# EAGLE library part IC_MEM_25XX** (library dp_devices)
SPI EEPROM
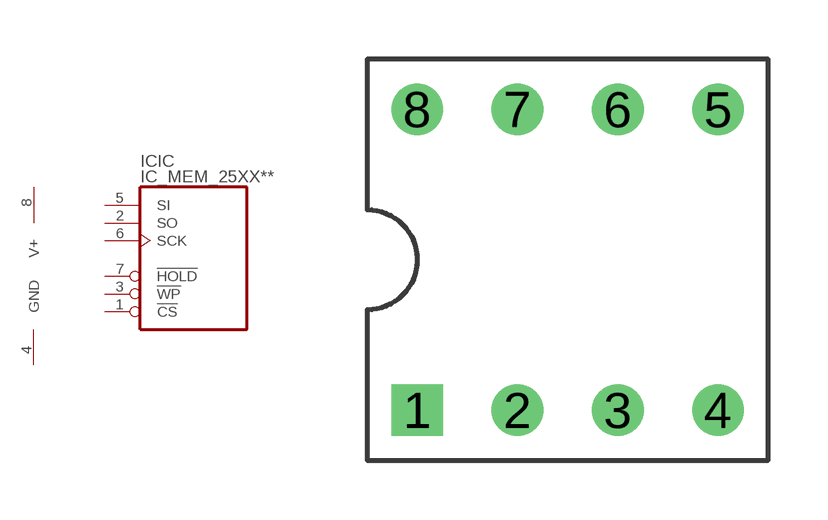
[diagram p132: symbol with the pads of DIP8; footprint DIP8]

Designator prefix IC; gates SUP=SUPPLY IC=25AA

## IC_MEM_25XX-DIP8  [DIP8]
1  IC:!CS  in
2  IC:SO  out
3  IC:!WP  in
4  SUP:GND  sup
5  IC:SI  in
6  IC:SCK  in
7  IC:!HOLD  in
8  SUP:V+  sup

## Footprint DIP8 (pad centres in mm)
drill 0.8 square: 1 -3.81,-3.81
drill 0.8 round: 2 -1.27,-3.81; 3 1.27,-3.81; 4 3.81,-3.81; 5 3.81,3.81; 6 1.27,3.81; 7 -1.27,3.81; 8 -3.81,3.81